# EAGLE library part 53398-0471 (library con-Molex)
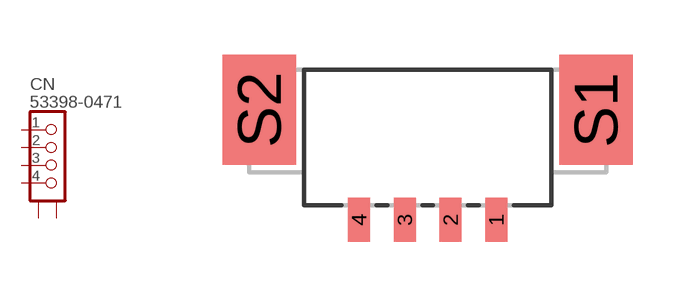
[diagram p8: symbol with the pads of 53398-04; footprint 53398-04]

Designator prefix CN

## 53398-0471  [53398-04]
1  1  pas
2  2  pas
3  3  pas
4  4  pas
S1  S1  pas
S2  S2  pas

## Footprint 53398-04 (pad centres in mm)
smd 0.6 x 1.2: 1 1.875,-0.9; 2 0.625,-0.9; 3 -0.625,-0.9; 4 -1.875,-0.9
smd 2 x 3: S1 4.6,2.1; S2 -4.6,2.1